# Altium footprint library 172448-0004.PcbLib: 1 footprints
Each footprint in its own frame and in the unit in brackets; x right, y up, seen from the top. Pads: shape width x height; smd on the part's side, far side on the other; paste and mask are expansions set on the pad; w line width, h text height; cw(c..) or ccw(c..) is an arc to the next point about the centre after c.
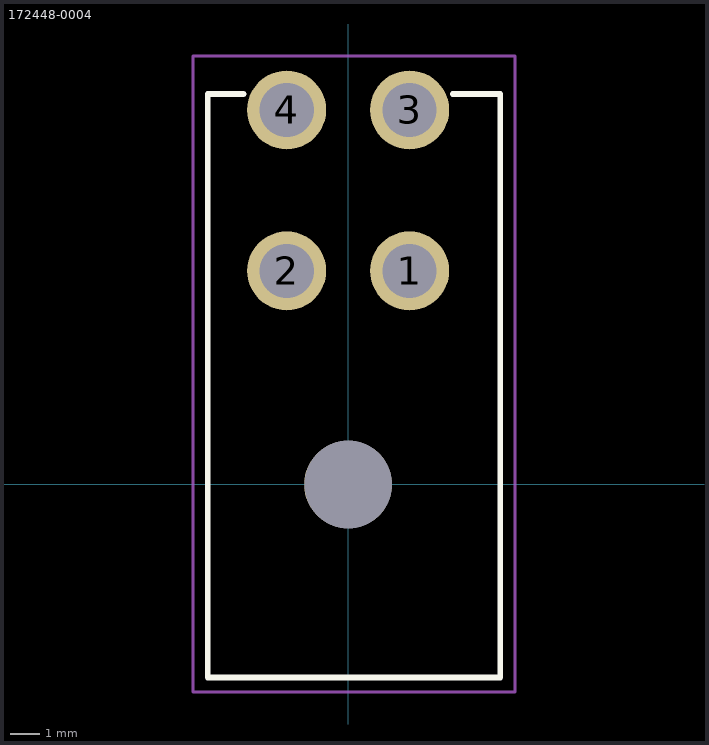
[diagram p0: the footprint, top view; thin cyan lines are the x and y axes]

## 172448-0004 [mm]
height 11.4
pads (5):
  round 2.7 hole 1.85 mask+0.076: 1(2.1,7.3) 2(-2.1,7.3) 3(2.1,12.8) 4(-2.1,12.8)
  round 3 hole 3 unplated mask+0.076: ""(0,0)
Top Overlay:
  lines w0.2: -3.576,13.34 -4.8,13.34 -4.8,-6.6 5.2,-6.6 5.2,13.34 3.576,13.34
Top Courtyard:
  lines w0.1: -5.3,-7.1 5.7,-7.1 5.7,14.65 -5.3,14.65 -5.3,-7.1
3D body "1724480004--3DModel-STEP-390490.STEP": height 11.4, standoff -3.6, extent -4.783,-6.604 5.214,13.331